# Altium schematic symbol library CM3Board_V1I2.SCHLIB: 170 symbols (part 1 of 5)
Pins are listed as number, name and electrical type; pins without a type are passive.

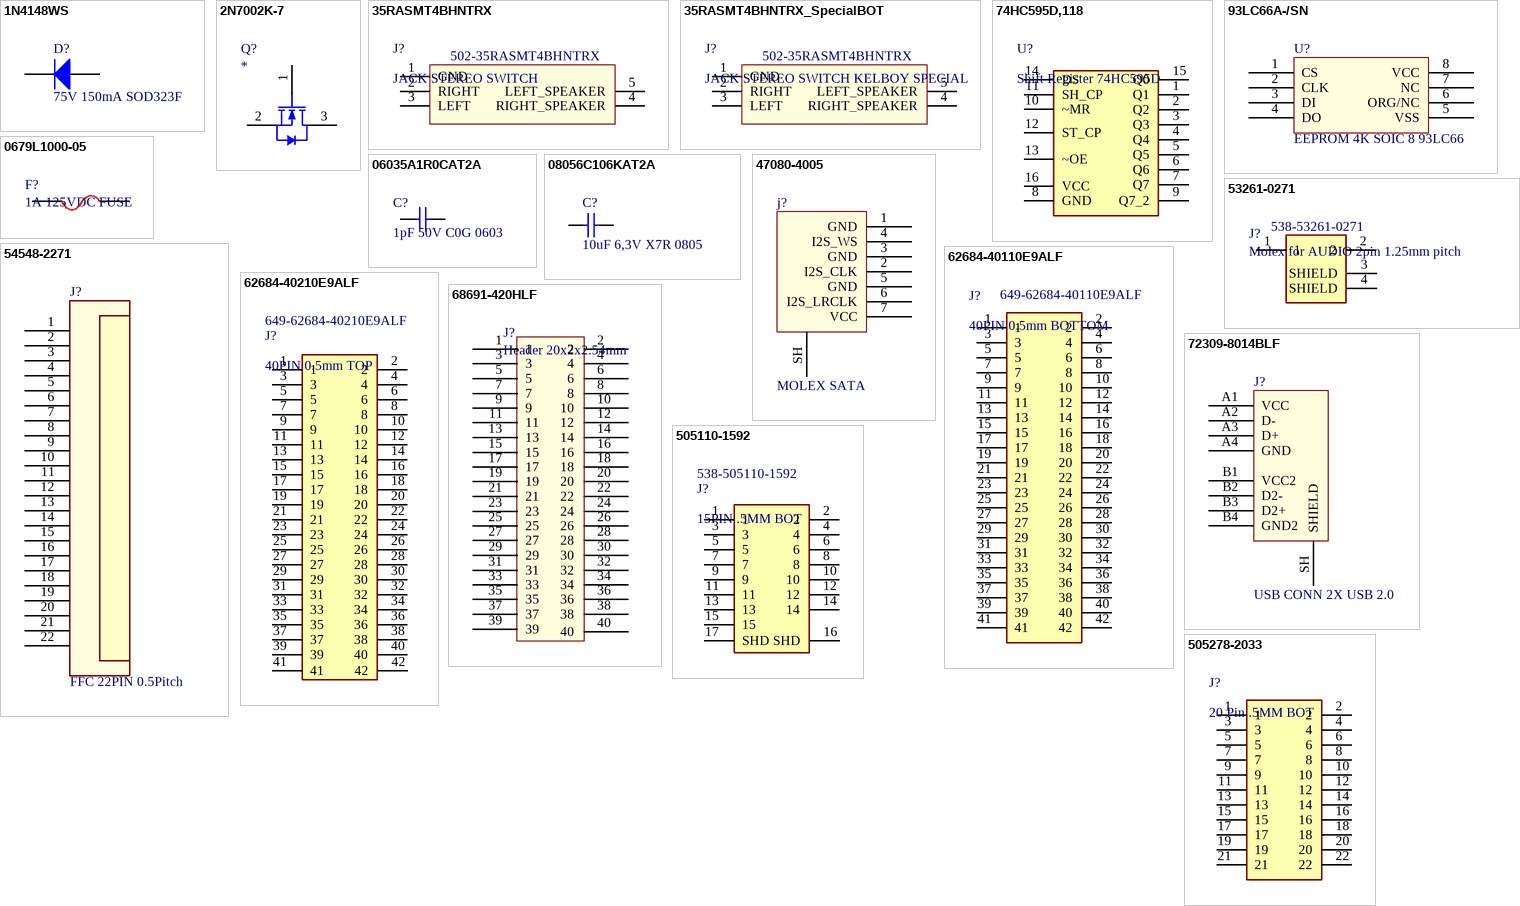
[diagram p0: symbols 1N4148WS to 505278-2033]

## 1N4148WS
designator D?, comment 75V 150mA SOD323F
DIODE GEN PURP 75V 150MA SOD323F; Manufacturer: ON Semiconductor / Fairchild; Manufacturer Part Number: 1N4148WS; Forward Voltage: 1V; Element Configuration: Single; Reverse Recovery Time: 4ns; Peak Reverse Current: 5uA; Power Dissipation: 200mW; Max Forward Surge Current (Ifsm): 2A; Supplier 1: Mouser; Stock 1: 522765; Pricing 1: 1=0.17, 10=0.152, 50=0.152, 100=0.054, 1000=0.036, 10000=0.024 (USD); Mount: Surface Mount; Number of Pins: 2; Weight: 0.0276g; Contact Plating: Matte,Tin; Min Operating Temperature: -55°C; Max Operating Temperature: 150°C; Packaging: Tape and Reel; Forward Current: 150mA; Package Quantity: 1; Recovery Time: 4ns; Average Rectified Current: 150mA; Max Repetitive Reverse Voltage (Vrrm): 75V; Max Reverse Voltage (DC): 75V; Reverse Voltage: 75V; Length: 1.8mm; Height: 1mm; Width: 1.35mm; Radiation Hardening: No; Lead Free: Lead Free; REACH SVHC: No SVHC; ComponentLink1URL: https://www.fairchildsemi.com/datasheets/1N/1N914BWS.pdf; ComponentLink1Description: https://www.fairchildsemi.com/datasheets/1N/1N914BWS.pdf; ComponentLink2URL: https://www.verical.com/server-webapp/html/getDatasheet?partID=127819; ComponentLink2Description: https://www.verical.com/server-webapp/html/getDatasheet?partID=127819; ComponentLink3URL: http://uk.rs-online.com/webdocs/10e1/0900766b810e1cd3.pdf; ComponentLink3Description: http://uk.rs-online.com/webdocs/10e1/0900766b810e1cd3.pdf; ComponentLink4URL: https://www.fairchildsemi.com/datasheets/1N/1N4148WS.pdf; ComponentLink4Description: https://www.fairchildsemi.com/datasheets/1N/1N4148WS.pdf; Supplier Part Number 1: 512-1N4148WS
footprint SOD-323F
pins: 1 K, 2 A

## 2N7002K-7
designator Q?
MOSFET Small-signal MOSFET; Manufacturer: Toshiba; Manufacturer Part Number: 2N7002K-7; Drain to Source Voltage (Vdss): 60V; Continuous Drain Current (ID): 380mA; Rds On Max: 2R; Input Capacitance: 17pF; Max Power Dissipation: 540mW; Mount: Surface Mount; Case/Package: SOT-23-3; Packaging: Tape and Reel; Supplier 1: Mouser; Supplier Part Number 1: 621-2N7002K-7
footprint SOT-23-3 (SOT23, 3-Leads, Body 2.92x1.3mm, Pitch 0.95mm)
pins: 1 G, 2 S, 3 D

## 35RASMT4BHNTRX
designator J?, comment JACK STEREO SWITCH  Supplier Part Number 1: 502-35RASMT4BHNTRX
CONN JACK STEREO 3.5MM SMD R/A; Manufacturer: Switchcraft; Manufacturer Part Number: 35RASMT4BHNTRX; Gender: Female; Shielding: Unshielded; Number of Ports: 1; Voltage Rating: 250V; Current Rating: 3A; Supplier 1: Mouser; RoHS: Yes; Stock 1: 8749; Pricing 1: 1 = 0,97000, 10 = 0,88000, 50 = 0,80300, 100 = 0,76400, 1000 = 0,71200, 10000 = 0,71200 (USD); Mount: Surface Mount; Contact Plating: Silver; Color: Black; Contact Material: Copper Alloy; Number of Terminals: 5; Housing Color: Black; Housing Material: Thermoplastic; Min Operating Temperature: -25°C; Max Operating Temperature: 85°C; Packaging: Tape and Reel; Termination: Solder; Package Quantity: 1100; Max Current Rating: 3A; Orientation: Right Angle; Length: 19mm; Depth: 6mm; Lead Free: Lead Free; ComponentLink1URL: https://datasheet.ciiva.com/390/35rasmt4bhntrx-cd-390487.pdf?src-supplier=Digi-Key; ComponentLink1Description: https://datasheet.ciiva.com/390/35rasmt4bhntrx-cd-390487.pdf?src-supplier=Digi-Key; ComponentLink2URL: https://datasheet.ciiva.com/11720/0900766b80e28029-11720622.pdf?src-supplier=RSComponents; ComponentLink2Description: https://datasheet.ciiva.com/11720/0900766b80e28029-11720622.pdf?src-supplier=RSComponents; ComponentLink3URL: https://datasheet.ciiva.com/390/35rasmt4bhntrx-cd-390488.pdf?src-supplier=Digi-Key; ComponentLink3Description: https://datasheet.ciiva.com/390/35rasmt4bhntrx-cd-390488.pdf?src-supplier=Digi-Key; ComponentLink4URL: https://datasheet.ciiva.com/390/35rasmt4bhntrx-cd-390489.pdf?src-supplier=Digi-Key; ComponentLink4Description: https://datasheet.ciiva.com/390/35rasmt4bhntrx-cd-390489.pdf?src-supplier=Digi-Key
footprint 35RASMT4BHNTRX
pins: 1 GND, 2 RIGHT, 3 LEFT, 4 RIGHT_SPEAKER, 5 LEFT_SPEAKER

## 35RASMT4BHNTRX_SpecialBOT
designator J?, comment JACK STEREO SWITCH KELBOY SPECIAL  Supplier Part Number 1: 502-35RASMT4BHNTRX
CONN JACK STEREO 3.5MM SMD R/A; Manufacturer: Switchcraft; Manufacturer Part Number: 35RASMT4BHNTRX; Gender: Female; Shielding: Unshielded; Number of Ports: 1; Voltage Rating: 250V; Current Rating: 3A; Supplier 1: Mouser; RoHS: Yes; Stock 1: 8749; Pricing 1: 1 = 0,97000, 10 = 0,88000, 50 = 0,80300, 100 = 0,76400, 1000 = 0,71200, 10000 = 0,71200 (USD); Mount: Surface Mount; Contact Plating: Silver; Color: Black; Contact Material: Copper Alloy; Number of Terminals: 5; Housing Color: Black; Housing Material: Thermoplastic; Min Operating Temperature: -25°C; Max Operating Temperature: 85°C; Packaging: Tape and Reel; Termination: Solder; Package Quantity: 1100; Max Current Rating: 3A; Orientation: Right Angle; Length: 19mm; Depth: 6mm; Lead Free: Lead Free; ComponentLink1URL: https://datasheet.ciiva.com/390/35rasmt4bhntrx-cd-390487.pdf?src-supplier=Digi-Key; ComponentLink1Description: https://datasheet.ciiva.com/390/35rasmt4bhntrx-cd-390487.pdf?src-supplier=Digi-Key; ComponentLink2URL: https://datasheet.ciiva.com/11720/0900766b80e28029-11720622.pdf?src-supplier=RSComponents; ComponentLink2Description: https://datasheet.ciiva.com/11720/0900766b80e28029-11720622.pdf?src-supplier=RSComponents; ComponentLink3URL: https://datasheet.ciiva.com/390/35rasmt4bhntrx-cd-390488.pdf?src-supplier=Digi-Key; ComponentLink3Description: https://datasheet.ciiva.com/390/35rasmt4bhntrx-cd-390488.pdf?src-supplier=Digi-Key; ComponentLink4URL: https://datasheet.ciiva.com/390/35rasmt4bhntrx-cd-390489.pdf?src-supplier=Digi-Key; ComponentLink4Description: https://datasheet.ciiva.com/390/35rasmt4bhntrx-cd-390489.pdf?src-supplier=Digi-Key
footprint 35RASMT4BHNTRX_SpecialBOT
pins: 1 GND, 2 RIGHT, 3 LEFT, 4 RIGHT_SPEAKER, 5 LEFT_SPEAKER

## 74HC595D,118
designator U?, comment Shift Register 74HC595D
Registros de desplazamientos de contadores 8-BIT SHIFT REG W/OUTPUT LATCH; Manufacturer: NXP Semiconductors; Manufacturer Part Number: 74HC595D,118; Direction: Unidirectional; Operating Supply Voltage: 5V; Propagation Delay: 16ns; Min Supply Voltage: 2V; Max Supply Voltage: 6V; Frequency: 100MHz; Number of Elements: 1; Number of Bits per Element: 8; Turn-On Delay Time: 265ns; Number of Output Lines: 9; Quiescent Current: 160uA; Supplier 1: Mouser; Stock 1: 61545; Pricing 1: 1=0.46, 10=0.33, 50=0.33, 100=0.152, 1000=0.117, 10000=0.091 (USD); Mount: Surface Mount; Case/Package: SO; Number of Pins: 16; Weight: 0.02lb; Contact Plating: Gold; Min Operating Temperature: -40°C; Max Operating Temperature: 125°C; Logic Function: Shift Register; Packaging: Tape and Reel; Package Quantity: 2500; Number of Input Lines: 1; Number of Bits: 8; Number of Inputs: 1; Number of Circuits: 1; Voltage: 5V; Length: 1inch; Height: 0.25inch; Width: 0.5inch; Radiation Hardening: No; REACH SVHC: No SVHC; Lead Free: Lead Free; ComponentLink1URL: http://www.farnell.com/datasheets/2038613.pdf?src-supplier=Element14; ComponentLink1Description: http://www.farnell.com/datasheets/2038613.pdf?src-supplier=Element14; ComponentLink2URL: http://www.nxp.com/documents/data_sheet/74HC_HCT595.pdf?src-supplier=Digi-Key; ComponentLink2Description: http://www.nxp.com/documents/data_sheet/74HC_HCT595.pdf?src-supplier=Digi-Key; ComponentLink3URL: http://www.farnell.com/datasheets/2038613.pdf?src-supplier=Farnell; ComponentLink3Description: http://www.farnell.com/datasheets/2038613.pdf?src-supplier=Farnell; ComponentLink4URL: http://www.nxp.com/documents/data_sheet/74HC_HCT595.pdf?ecmp=mouser&src-supplier=Mouser; ComponentLink4Description: http://www.nxp.com/documents/data_sheet/74HC_HCT595.pdf?ecmp=mouser&src-supplier=Mouser; ComponentLink5URL: http://www.farnell.com/datasheets/1561729.pdf?src-supplier=Element14; ComponentLink5Description: http://www.farnell.com/datasheets/1561729.pdf?src-supplier=Element14; Supplier Part Number 1: 771-74HC595D-T
footprint SOIC127P600X175-16N
pins: 1 Q1, 2 Q2, 3 Q3, 4 Q4, 5 Q5, 6 Q6, 7 Q7, 8 GND, 9 Q7_2, 10 ~MR, 11 SH_CP, 12 ST_CP, 13 ~OE, 14 DS, 15 Q0, 16 VCC

## 93LC66A-/SN
designator U?, comment EEPROM 4K SOIC 8 93LC66
IC, EEPROM SERIAL 4K, 93LC66, SOIC8; Manufacturer: Microchip; Manufacturer Part Number: 93LC66A-/SN; Density: 4Kb; Max Frequency: 2MHz; Max Supply Voltage: 6V; Min Supply Voltage: 2.5V; Nominal Supply Current: 1.5mA; Access Time: 400ns; Number of Words: 512; Supplier 1: Mouser; Stock 1: 3423; Pricing 1: 1=0.26, 10=0.26, 50=0.257, 100=0.247, 1000=0.247, 10000=0.247 (USD); Mount: Surface Mount; Case/Package: SOIC; Number of Pins: 8; Contact Plating: Matte,Tin; Min Operating Temperature: 0°C; Max Operating Temperature: 70°C; Interface: Serial; Frequency: 2MHz; Package Quantity: 100; Packaging: Rail/Tube; Memory Size: 4Kb; Memory Type: EEPROM; Length: 4.9mm; Height: 1.5mm; Width: 3.9mm; Radiation Hardening: No; REACH SVHC: No SVHC; Lead Free: Lead Free; ComponentLink1URL: https://www.verical.com/server-webapp/html/getDatasheet?partID=77478; ComponentLink1Description: https://www.verical.com/server-webapp/html/getDatasheet?partID=77478; ComponentLink2URL: http://ww1.microchip.com/downloads/en/DeviceDoc/21795C.pdf; ComponentLink2Description: http://ww1.microchip.com/downloads/en/DeviceDoc/21795C.pdf; ComponentLink3URL: http://www.farnell.com/datasheets/1688094.pdf; ComponentLink3Description: http://www.farnell.com/datasheets/1688094.pdf; ComponentLink4URL: http://www.microchip.com/mymicrochip/filehandler.aspx?ddocname=en011819; ComponentLink4Description: http://www.microchip.com/mymicrochip/filehandler.aspx?ddocname=en011819; ComponentLink5URL: http://ww1.microchip.com/downloads/jp/DeviceDoc/jp011819.pdf; ComponentLink5Description: http://ww1.microchip.com/downloads/jp/DeviceDoc/jp011819.pdf; ComponentLink6URL: http://www.alliedelec.com/images/products/datasheets/bm/MICROCHIP/70045314.pdf; ComponentLink6Description: http://www.alliedelec.com/images/products/datasheets/bm/MICROCHIP/70045314.pdf; Supplier Part Number 1: 579-93LC66ASN
footprint SOIC-8 (SOIC, 8-Leads, Body 4.9x3.9mm, Pitch 1.27mm, IPC Medium Density)
pins: 1 CS, 2 CLK, 3 DI, 4 DO, 5 VSS, 6 ORG/NC, 7 NC, 8 VCC

## 0679L1000-05
designator F?, comment 1A 125VDC FUSE
FUSE BRD MNT 1A 125VAC/VDC; Manufacturer: Bel; Manufacturer Part Number: 0679L1000-05; Voltage Rating (AC): 125V; DC Cold Resistance: 90mR; Fuse Type: Board Mount (Cartridge Style Excluded); Approvals: cURus; Supplier 1: Mouser; RoHS: Yes; Stock 1: 2811; Pricing 1: 1 = 0,33000, 10 = 0,30100, 50 = 0,30100, 100 = 0,27100, 1000 = 0,20000, 10000 = 0,13400 (USD); Mount: Surface Mount; Case/Package: 2410; Case Code (Metric): 6125; Case Code (Imperial): 2410; Min Operating Temperature: -55°C; Max Operating Temperature: 125°C; Packaging: Tape and Reel; Current Rating: 1A; Voltage Rating (DC): 125V; Length: 0.24inch; Height: 0.11inch; Width: 0.1inch; ComponentLink1URL: http://www.belfuse.com/resources/CircuitProtection/datasheets/0679L%20Sep2016.pdf?src-supplier=Digi-Key; ComponentLink1Description: http://www.belfuse.com/resources/CircuitProtection/datasheets/0679L%20Sep2016.pdf?src-supplier=Digi-Key; Supplier Part Number 1: 530-0679L1000-05
footprint Fuse/Resistor/capacitor 2410/6125
pins: 1, 2

## 06035A1R0CAT2A
designator C?, comment 1pF 50V C0G 0603
CAP CER 1PF 50V C0G/NP0 0603; Manufacturer: Kyocera AVX; Manufacturer Part Number: 06035A1R0CAT2A; Temperature Coefficient: 0ppm/°C; Supplier 1: Mouser; RoHS: Yes; Stock 1: 16359; Pricing 1: 1 = 0,10000, 10 = 0,08300, 50 = 0,08300, 100 = 0,03700, 1000 = 0,02100, 10000 = 0,01300 (USD); Mount: Surface Mount; Case/Package: 0603; Case Code (Metric): 1608; Case Code (Imperial): 0603; Contact Plating: Tin; Min Operating Temperature: -55°C; Max Operating Temperature: 125°C; Capacitance: 1pF; Dielectric: C0G; Packaging: Tape and Reel; Voltage Rating (DC): 50V; Voltage Rating: 50V; Package Quantity: 4000; Termination: SMD/SMT; Voltage: 50V; Length: 1.6mm; Height: 0.86mm; Depth: 0.81mm; Width: 0.032inch; Thickness: 0.035inch; Radiation Hardening: No; REACH SVHC: No SVHC; Lead Free: Lead Free; ComponentLink1URL: https://datasheet.ciiva.com/150/ccog-150338.pdf?src-supplier=Digi-Key; ComponentLink1Description: https://datasheet.ciiva.com/150/ccog-150338.pdf?src-supplier=Digi-Key; ComponentLink2URL: https://datasheet.ciiva.com/150/ccog-150339.pdf?src-supplier=Digi-Key; ComponentLink2Description: https://datasheet.ciiva.com/150/ccog-150339.pdf?src-supplier=Digi-Key; ComponentLink3URL: https://datasheet.ciiva.com/150/ccog-150340.pdf?src-supplier=Digi-Key; ComponentLink3Description: https://datasheet.ciiva.com/150/ccog-150340.pdf?src-supplier=Digi-Key; ComponentLink4URL: https://datasheet.ciiva.com/17493/ccog-17493973.pdf?src-supplier=Avnet+Europe; ComponentLink4Description: https://datasheet.ciiva.com/17493/ccog-17493973.pdf?src-supplier=Avnet+Europe; ComponentLink5URL: https://datasheet.ciiva.com/16215/ccog-16215688.pdf?src-supplier=Future+Electronics; ComponentLink5Description: https://datasheet.ciiva.com/16215/ccog-16215688.pdf?src-supplier=Future+Electronics; ComponentLink6URL: https://datasheet.ciiva.com/2987/ccog-2987787.pdf?src-supplier=Avnet; ComponentLink6Description: https://datasheet.ciiva.com/2987/ccog-2987787.pdf?src-supplier=Avnet; ComponentLink7URL: https://datasheet.ciiva.com/22681/1796416-22681067.pdf?src-supplier=Element14; ComponentLink7Description: https://datasheet.ciiva.com/22681/1796416-22681067.pdf?src-supplier=Element14; ComponentLink8URL: https://datasheet.ciiva.com/11537/ccog-11537772.pdf?src-supplier=Avnet; ComponentLink8Description: https://datasheet.ciiva.com/11537/ccog-11537772.pdf?src-supplier=Avnet; Supplier Part Number 1: 581-06035A1R0C
footprint C 0603/1608
pins: 1, 2

## 08056C106KAT2A
designator C?, comment 10uF 6,3V X7R 0805
CAP CER 10UF 6.3V X7R 0805; Manufacturer: AVX Corporation; Manufacturer Part Number: 08056C106KAT2A; Tolerance: ±10%; Notification: Current market demand for these product types have resulted in fluctuating and extending lead times. Lead times may differ.; Supplier 1: Digi-Key; RoHS: RoHS Compliant; Category: Capacitors; Stock 1: 155654; Pricing 1: 1=0.33, 10=0.228, 100=0.1372, 500=0.1029, 1000=0.0869 (EUR); Packaging: Cut Tape (CT); Part Status: Active; Voltage - Rated: 6.3V; Temperature Coefficient: X7R; Operating Temperature: -55°C ~ 125°C; Features: -; Ratings: -; Applications: General Purpose; Mounting Type: Surface Mount, MLCC; Package / Case: 0805 (2012 Metric); Size / Dimension: 0.079" L x 0.049" W (2.01mm x 1.25mm); Height - Seated (Max): -; Thickness (Max): 0.060" (1.52mm); Lead Spacing: -; Lead Style: -; ComponentLink1URL: http://datasheets.avx.com/X7RDielectric.pdf; ComponentLink1Description: http://datasheets.avx.com/X7RDielectric.pdf; Supplier Part Number 1: 478-5322-1-ND
footprint C 0805/2012
pins: 1, 2

## 47080-4005
designator j?, comment MOLEX SATA
MOLEX         47080-4005             I/O Connector, 7 Contacts, Plug, SATA, Surface Mount, 47080 Series, PCB Mount; Number of Positions: 7; Gender: Male; Number of Ports: 1; Current Rating: 1.5A; Voltage Rating: 15V; Pitch: 1.27mm; Glow Wire Compliant: Non-compliant; Supplier 1: Mouser; Manufacturer: Molex; Manufacturer Part Number: 47080-4005; Stock 1: 6575; Pricing 1: 1=0.59, 10=0.539, 50=0.518, 100=0.508, 1000=0.497, 10000=0.42 (USD); Mount: Surface Mount; Contact Material: Copper Alloy; Contact Plating: Gold; Number of Terminals: 7; Housing Material: Plastic; Min Operating Temperature: -35°C; Max Operating Temperature: 85°C; Packaging: Tape and Reel; Termination: Solder; Orientation: Right Angle; Package Quantity: 1520; Connector Type: SATA; Number of Contacts: 7; Voltage Rating (DC): 15V; Number of Circuits: 7; Length: 17.54mm; Depth: 11.56mm; Radiation Hardening: No; REACH SVHC: Unknown; Lead Free: Lead Free; ComponentLink1URL: http://www.mouser.com/ds/2/276/0470804005_PCB_HEADERS-146260.pdf?src-supplier=Mouser; ComponentLink1Description: http://www.mouser.com/ds/2/276/0470804005_PCB_HEADERS-146260.pdf?src-supplier=Mouser; ComponentLink2URL: http://www.farnell.com/datasheets/1630652.pdf?src-supplier=Element14; ComponentLink2Description: http://www.farnell.com/datasheets/1630652.pdf?src-supplier=Element14; ComponentLink3URL: http://www.molex.com/pdm_docs/sd/470804001_sd.pdf?src-supplier=Element14; ComponentLink3Description: http://www.molex.com/pdm_docs/sd/470804001_sd.pdf?src-supplier=Element14; ComponentLink4URL: http://www.farnell.com/datasheets/2199206.pdf?src-supplier=Element14; ComponentLink4Description: http://www.farnell.com/datasheets/2199206.pdf?src-supplier=Element14; ComponentLink5URL: http://www.onlinecomponents.com/productFiles/mf-MOL/0470804005_pcb_headers.pdf?src-supplier=Onlinecomponents.com; ComponentLink5Description: http://www.onlinecomponents.com/productFiles/mf-MOL/0470804005_pcb_headers.pdf?src-supplier=Onlinecomponents.com; ComponentLink6URL: http://www.jameco.com/Jameco/Products/ProdDS/1971626.pdf?src-supplier=Jameco; ComponentLink6Description: http://www.jameco.com/Jameco/Products/ProdDS/1971626.pdf?src-supplier=Jameco; Supplier Part Number 1: 538-47080-4005
footprint 47080-4005 SATA
pins: 1 GND, 2 I2S_CLK, 3 GND, 4 I2S_WS, 5 GND, 6 I2S_LRCLK, 7 VCC, SH

## 53261-0271
designator J?, comment Molex for AUDIO 2pin 1.25mm pitch  Supplier Part Number 1: 538-53261-0271
MOLEX - 53261-0271 - CONNECTOR, HEADER, 2POS, 1ROW, 1.25MM; Contact Resistance: 20mR; Number of Positions: 2; Gender: Male; Voltage Rating: 125V; Current Rating: 1A; Insulation Resistance: 100MR; Glow Wire Compliant: Non-compliant; Supplier 1: Mouser; Manufacturer 1: Molex; Manufacturer Part Number 1: 53261-0271; Stock 1: 33346; Pricing 1: 1=0,46000, 10=0,35000, 100=0,30600, 500=0,29200, 1000=0,24000, 2000=0,24000 (USD); RoHS: Yes; Mount: Surface Mount; Contact Plating: Tin; Contact Material: Bronze,Tin; Color: Beige; Housing Material: Thermoplastic; Min Operating Temperature: -40°C; Max Operating Temperature: 85°C; Termination: SMD/SMT; Number of Rows: 1; Packaging: Tape and Reel; Number of Contacts: 2; Orientation: Right Angle; Voltage Rating (AC): 125V; Package Quantity: 1000; Working Voltage: 125V; Number of Circuits: 2; Voltage Rating (DC): 125V; Pitch: 1.25mm; Lead Pitch: 1.25mm; Radiation Hardening: No; Flammability Rating: UL94 V-0; REACH SVHC: Unknown; Lead Free: Lead Free; ComponentLink1URL: https://datasheet.ciiva.com/11747/0900766b8078fc90-11747475.pdf?src-supplier=RSComponents; ComponentLink1Description: https://datasheet.ciiva.com/11747/0900766b8078fc90-11747475.pdf?src-supplier=RSComponents; ComponentLink2URL: https://datasheet.ciiva.com/7167/1626147-7167496.pdf?src-supplier=Newark; ComponentLink2Description: https://datasheet.ciiva.com/7167/1626147-7167496.pdf?src-supplier=Newark; ComponentLink3URL: https://datasheet.ciiva.com/30193/198270532610271-pcb-headers-30193321.pdf?src-supplier=Onlinecomponents.com; ComponentLink3Description: https://datasheet.ciiva.com/30193/198270532610271-pcb-headers-30193321.pdf?src-supplier=Onlinecomponents.com; ComponentLink4URL: https://datasheet.ciiva.com/5151/0532610271-pcb-headers-171053-5151611.pdf?src-supplier=Mouser; ComponentLink4Description: https://datasheet.ciiva.com/5151/0532610271-pcb-headers-171053-5151611.pdf?src-supplier=Mouser; ComponentLink5URL: https://datasheet.ciiva.com/34303/1932547-34303342.pdf?src-supplier=Jameco; ComponentLink5Description: https://datasheet.ciiva.com/34303/1932547-34303342.pdf?src-supplier=Jameco; ComponentLink6URL: https://datasheet.ciiva.com/16658/0532610271-pcb-headers-16658423.pdf?src-supplier=Avnet+Europe; ComponentLink6Description: https://datasheet.ciiva.com/16658/0532610271-pcb-headers-16658423.pdf?src-supplier=Avnet+Europe; ComponentLink7URL: https://datasheet.ciiva.com/17035/70091115-17035863.pdf?src-supplier=Allied+Electronics; ComponentLink7Description: https://datasheet.ciiva.com/17035/70091115-17035863.pdf?src-supplier=Allied+Electronics; ComponentLink8URL: https://datasheet.ciiva.com/7920/1887027-7920826.pdf?src-supplier=Element14; ComponentLink8Description: https://datasheet.ciiva.com/7920/1887027-7920826.pdf?src-supplier=Element14; ComponentLink9URL: https://datasheet.ciiva.com/9468/0532610271-pcb-headers-9468506.pdf?src-supplier=Avnet; ComponentLink9Description: https://datasheet.ciiva.com/9468/0532610271-pcb-headers-9468506.pdf?src-supplier=Avnet; ComponentLink10URL: https://datasheet.ciiva.com/22683/1626147-22683562.pdf?src-supplier=Element14; ComponentLink10Description: https://datasheet.ciiva.com/22683/1626147-22683562.pdf?src-supplier=Element14; ComponentLink11URL: https://datasheet.ciiva.com/46393/1808526-46393547.pdf?src-supplier=Element14; ComponentLink11Description: https://datasheet.ciiva.com/46393/1808526-46393547.pdf?src-supplier=Element14
footprint 532610271
pins: 1, 2, 3 SHIELD, 4 SHIELD

## 54548-2271
designator J?, comment FFC 22PIN 0.5Pitch
FFC & FPC Connectors 0.5 FPC ZIF Hsg Assy ssy 22Ckt EmbsTp Pkg; Manufacturer: Molex; Manufacturer Part Number: 54548-2271; Current Rating: 500mA; Voltage Rating: 50V; Number of Positions: 22; Contact Location: Bottom; Gender: Receptacle; Stackable: No; Pitch: 0.5mm; Supplier 1: Mouser; Stock 1: 16642; Pricing 1: 1=2.36, 10=2.08, 50=2.08, 100=1.89, 1000=1.37, 10000=1.37 (USD); Contact Material: Bronze,Gold; Contact Plating: Gold,Tin; Housing Material: Polymer; Material: Bronze; Package Quantity: 3000; Packaging: Tape and Reel; Termination: SMD/SMT; Number of Rows: 1; Orientation: Right Angle; Number of Contacts: 22; Number of Circuits: 22; REACH SVHC: Unknown; ELV: Compliant; ComponentLink1URL: http://www.mouser.com/ds/2/276/0545482271_FFC_FPC_CONNECTORS-144074.pdf?src-supplier=Mouser; ComponentLink1Description: http://www.mouser.com/ds/2/276/0545482271_FFC_FPC_CONNECTORS-144074.pdf?src-supplier=Mouser; Supplier Part Number 1: 538-54548-2271
footprint FFC 22pin 0.5pitch
pins: 1 P1, 2 P2, 3 P3, 4 P4, 5 P5, 6 P6, 7 P7, 8 P8, 9 P9, 10 P10, 11 P11, 12 P12, 13 P13, 14 P14, 15 P15, 16 P16, 17 P17, 18 P18, 19 P19, 20 P20, 21 P21, 22 P22

## 62684-40110E9ALF
designator J?, comment 40PIN 0.5mm BOTTOM  Supplier Part Number 1: 649-62684-40110E9ALF
Conn FFC/FPC Connector SKT 40 POS 0.5mm Solder RA SMD Embossed T/R; Manufacturer: Amphenol FCI; Manufacturer Part Number: 62684-40110E9ALF; Actuator Material: Glass; Number of Contacts: 40; Contact Resistance: 30mR; Voltage Rating: 50V; Current Rating: 500mA; Gender: Receptacle; Insulation Resistance: 100MR; Supplier 1: Mouser; RoHS: Yes; Stock 1: 1942; Pricing 1: 1 = 0,89000, 10 = 0,70300, 50 = 0,70300, 100 = 0,67200, 1000 = 0,48900, 10000 = 0,40600 (USD); Mount: Surface Mount; Contact Material: Bronze; Contact Plating: Gold; Housing Color: Beige; Housing Material: Thermoplastic; Min Operating Temperature: -55°C; Max Operating Temperature: 85°C; Number of Rows: 1; Termination: Solder; Orientation: Right Angle; Packaging: Tape and Reel; Package Quantity: 500; Number of Positions: 40; Contact Location: Bottom; Max Voltage Rating (AC): 50V; Max Voltage Rating (DC): 50V; Length: 25.5mm; Pitch: 0.5mm; Depth: 5mm; Radiation Hardening: No; REACH SVHC: No SVHC; Lead Free: Lead Free; Flammability Rating: UL94 V-0; ComponentLink1URL: https://datasheet.ciiva.com/25629/0900766b8118e51e-25629595.pdf?src-supplier=RSComponents; ComponentLink1Description: https://datasheet.ciiva.com/25629/0900766b8118e51e-25629595.pdf?src-supplier=RSComponents; ComponentLink2URL: https://datasheet.ciiva.com/18491/62684-18491962.pdf?src-supplier=Digi-Key; ComponentLink2Description: https://datasheet.ciiva.com/18491/62684-18491962.pdf?src-supplier=Digi-Key; ComponentLink3URL: https://datasheet.ciiva.com/8037/1844754-8037941.pdf?src-supplier=Element14; ComponentLink3Description: https://datasheet.ciiva.com/8037/1844754-8037941.pdf?src-supplier=Element14
footprint 6268440110E9ALF
pins: 1, 2, 3, 4, 5, 6, 7, 8, 9, 10, 11, 12, 13, 14, 15, 16, 17, 18, 19, 20, 21, 22, 23, 24, 25, 26, 27, 28, 29, 30, 31, 32, 33, 34, 35, 36, 37, 38, 39, 40, 41, 42

## 62684-40210E9ALF
designator J?, comment 40PIN 0.5mm TOP  Supplier Part Number 1: 649-62684-40210E9ALF
AMPHENOL ICC (FCI) - 62684-40210E9ALF - FPC/FFC, 0.5MM, R/A, TOP, 40WAY; Manufacturer: Amphenol FCI; Actuator Material: Glass; Number of Contacts: 40; Voltage Rating: 50V; Current Rating: 500mA; Gender: Receptacle; Contact Resistance: 30mR; Insulation Resistance: 100MR; Supplier 1: Mouser; Manufacturer Part Number: 62684-40210E9ALF; RoHS: Yes; Stock 1: 1370; Pricing 1: 1 = 1,05000, 10 = 0,83700, 50 = 0,83700, 100 = 0,80100, 1000 = 0,49700, 10000 = 0,43000 (USD); Mount: Surface Mount; Contact Plating: Gold; Contact Material: Bronze; Housing Color: Beige; Housing Material: Thermoplastic; Min Operating Temperature: -55°C; Max Operating Temperature: 85°C; Number of Rows: 1; Termination: Solder; Orientation: Right Angle; Packaging: Tape and Reel; Package Quantity: 500; Contact Location: Top; Number of Positions: 40; Max Voltage Rating (AC): 50V; Max Voltage Rating (DC): 50V; Length: 25.5mm; Pitch: 0.5mm; Depth: 5mm; Radiation Hardening: No; REACH SVHC: No SVHC; Flammability Rating: UL94 V-0; ComponentLink1URL: https://datasheet.ciiva.com/25629/0900766b8118e51e-25629590.pdf?src-supplier=RSComponents; ComponentLink1Description: https://datasheet.ciiva.com/25629/0900766b8118e51e-25629590.pdf?src-supplier=RSComponents; ComponentLink2URL: https://datasheet.ciiva.com/13704/62684-13704693.pdf?src-supplier=Mouser; ComponentLink2Description: https://datasheet.ciiva.com/13704/62684-13704693.pdf?src-supplier=Mouser; ComponentLink3URL: https://datasheet.ciiva.com/8037/62684-8037944.pdf?src-supplier=Element14; ComponentLink3Description: https://datasheet.ciiva.com/8037/62684-8037944.pdf?src-supplier=Element14; ComponentLink4URL: https://datasheet.ciiva.com/18491/62684-18491948.pdf?src-supplier=Digi-Key; ComponentLink4Description: https://datasheet.ciiva.com/18491/62684-18491948.pdf?src-supplier=Digi-Key; ComponentLink5URL: https://datasheet.ciiva.com/10367/10101643-10367647.pdf?src-supplier=Avnet; ComponentLink5Description: https://datasheet.ciiva.com/10367/10101643-10367647.pdf?src-supplier=Avnet
footprint 62684-40
pins: 1, 2, 3, 4, 5, 6, 7, 8, 9, 10, 11, 12, 13, 14, 15, 16, 17, 18, 19, 20, 21, 22, 23, 24, 25, 26, 27, 28, 29, 30, 31, 32, 33, 34, 35, 36, 37, 38, 39, 40, 41, 42

## 68691-420HLF
designator J?, comment Header 20x2x2.54mm
Conn Unshrouded Header HDR 20 POS 2.54mm Solder ST Thru-Hole Poly Bag; Manufacturer: Amphenol FCI; Manufacturer Part Number: 68691-420HLF; Current Rating: 3A; Voltage Rating: 1.5kV; Number of Positions: 20; Insulation Resistance: 5GR; Gender: Male; Connector Type: Male Pin; Row Spacing: 0.1inch; Contact Post Length: 3.05mm; Supplier 1: Mouser; Stock 1: 1459; Pricing 1: 10000=0.188 (USD); Mount: Through Hole; Color: Black; Contact Plating: Tin; Contact Material: Bronze; Housing Color: Black; Housing Material: Thermoplastic; Min Operating Temperature: -65°C; Max Operating Temperature: 125°C; Package Quantity: 100; Number of Rows: 2; Packaging: Bulk; Contact Gender: Male; Termination: Solder; Max Voltage Rating (AC): 1.5kV; Number of Contacts: 20; Orientation: Straight; Length: 25.4mm; Pitch: 2.54mm; Contact Mating Length: 0.318inch; Depth: 4.83mm; Lead Free: Lead Free; ComponentLink1URL: http://portal.fciconnect.com/Comergent//fci/drawing/67996.pdf?src-supplier=Digi-Key; ComponentLink1Description: http://portal.fciconnect.com/Comergent//fci/drawing/67996.pdf?src-supplier=Digi-Key; ComponentLink2URL: http://portal.fciconnect.com/Comergent/fci/drawing/67996.pdf?src-supplier=Avnet; ComponentLink2Description: http://portal.fciconnect.com/Comergent/fci/drawing/67996.pdf?src-supplier=Avnet; Supplier Part Number 1: 649-68691-420HLF
footprint Header 20x2 (2.54mm)
pins: 1, 2, 3, 4, 5, 6, 7, 8, 9, 10, 11, 12, 13, 14, 15, 16, 17, 18, 19, 20, 21, 22, 23, 24, 25, 26, 27, 28, 29, 30, 31, 32, 33, 34, 35, 36, 37, 38, 39, 40

## 72309-8014BLF
designator J?, comment USB CONN 2X USB 2.0
AMPHENOL FCI         72309-8014BLF             USB STACKED, 2.0 TYPE A, 2PORT, R/A; Plating: Nickel; Gender: Receptacle; Connector Type: Receptacle,USB; Number of Contacts: 8; Number of Ports: 2; USB Standard: USB 2.0; Supplier 1: Mouser; Manufacturer: Amphenol FCI; Manufacturer Part Number: 72309-8014BLF; Stock 1: 2605; Pricing 1: 1=1.37, 10=1.12, 50=1.12, 100=1.07, 1000=0.759, 10000=0.759 (USD); Mount: Horizontal,Through Hole; Contact Material: Copper,Copper Alloy; Contact Plating: Gold,GXT,Matte,Tin; Color: Silver; Number of Terminals: 8; Housing Material: Thermoplastic; Termination: Solder; Orientation: Right Angle; Packaging: Rail/Tube; Package Quantity: 41; Number of Positions: 8; Length: 13.1mm; Depth: 17mm; REACH SVHC: No SVHC; Lead Free: Lead Free; Flammability Rating: UL94 V-0; ComponentLink1URL: http://portal.fciconnect.com/Comergent/fci/drawing/72309.pdf; ComponentLink1Description: http://portal.fciconnect.com/Comergent/fci/drawing/72309.pdf; ComponentLink2URL: http://portal.fciconnect.com/Comergent//fci/drawing/72309.pdf; ComponentLink2Description: http://portal.fciconnect.com/Comergent//fci/drawing/72309.pdf; ComponentLink3URL: http://www.farnell.com/datasheets/1483119.pdf; ComponentLink3Description: http://www.farnell.com/datasheets/1483119.pdf; Supplier Part Number 1: 649-72309-8014BLF
footprint 72309-8014BLF
pins: A1 VCC, A2 D-, A3 D+, A4 GND, B1 VCC2, B2 D2-, B3 D2+, B4 GND2, SH SHIELD

## 505110-1592
designator J?, comment 15PIN .5MM BOT  Supplier Part Number 1: 538-505110-1592
CONN FPC BOTTOM 15POS .5MM R/A; Manufacturer: Molex; Manufacturer Part Number: 505110-1592; Actuator Material: Nylon,Glass,Polyamide; Number of Positions: 15; Voltage Rating: 50V; Current Rating: 500mA; Gender: Receptacle; Pitch: 0.02inch; Supplier 1: Mouser; Stock 1: 11750; Pricing 1: 1=0.67, 10=0.583, 50=0.583, 100=0.507, 1000=0.369, 10000=0.312 (USD); Mount: Surface Mount; Contact Material: Bronze; Contact Plating: Gold; Housing Material: Polymer; Min Operating Temperature: -40°C; Max Operating Temperature: 105°C; Packaging: Tape and Reel; Termination: Solder; Number of Rows: 1; REACH SVHC: Unknown; Flammability Rating: UL94 V-0
footprint 505110-1592
pins: 1, 2, 3, 4, 5, 6, 7, 8, 9, 10, 11, 12, 13, 14, 15, 16 SHD, 17 SHD

## 505278-2033
designator J?, comment 20 Pin .5MM BOT
0.5 FFC ZIF BTM CONT EMBT PKG 20; Manufacturer: Molex; Manufacturer Part Number: 505278-2033; Actuator Material: Nylon,Glass,Polyamide; Number of Positions: 20; Voltage Rating: 50V; Current Rating: 500mA; Pitch: 0.02inch; Supplier 1: Mouser; Stock 1: 17996; Pricing 1: 1=0.65, 10=0.561, 50=0.561, 100=0.488, 1000=0.355, 10000=0.3 (USD); Mount: Surface Mount; Contact Material: Bronze; Contact Plating: Tin; Housing Material: Polymer; Min Operating Temperature: -40°C; Max Operating Temperature: 85°C; Packaging: Tape and Reel; Termination: Solder; Flammability Rating: UL94 V-0; Supplier Part Number 1: 538-505278-2033
footprint 5052782033
pins: 1, 2, 3, 4, 5, 6, 7, 8, 9, 10, 11, 12, 13, 14, 15, 16, 17, 18, 19, 20, 21, 22

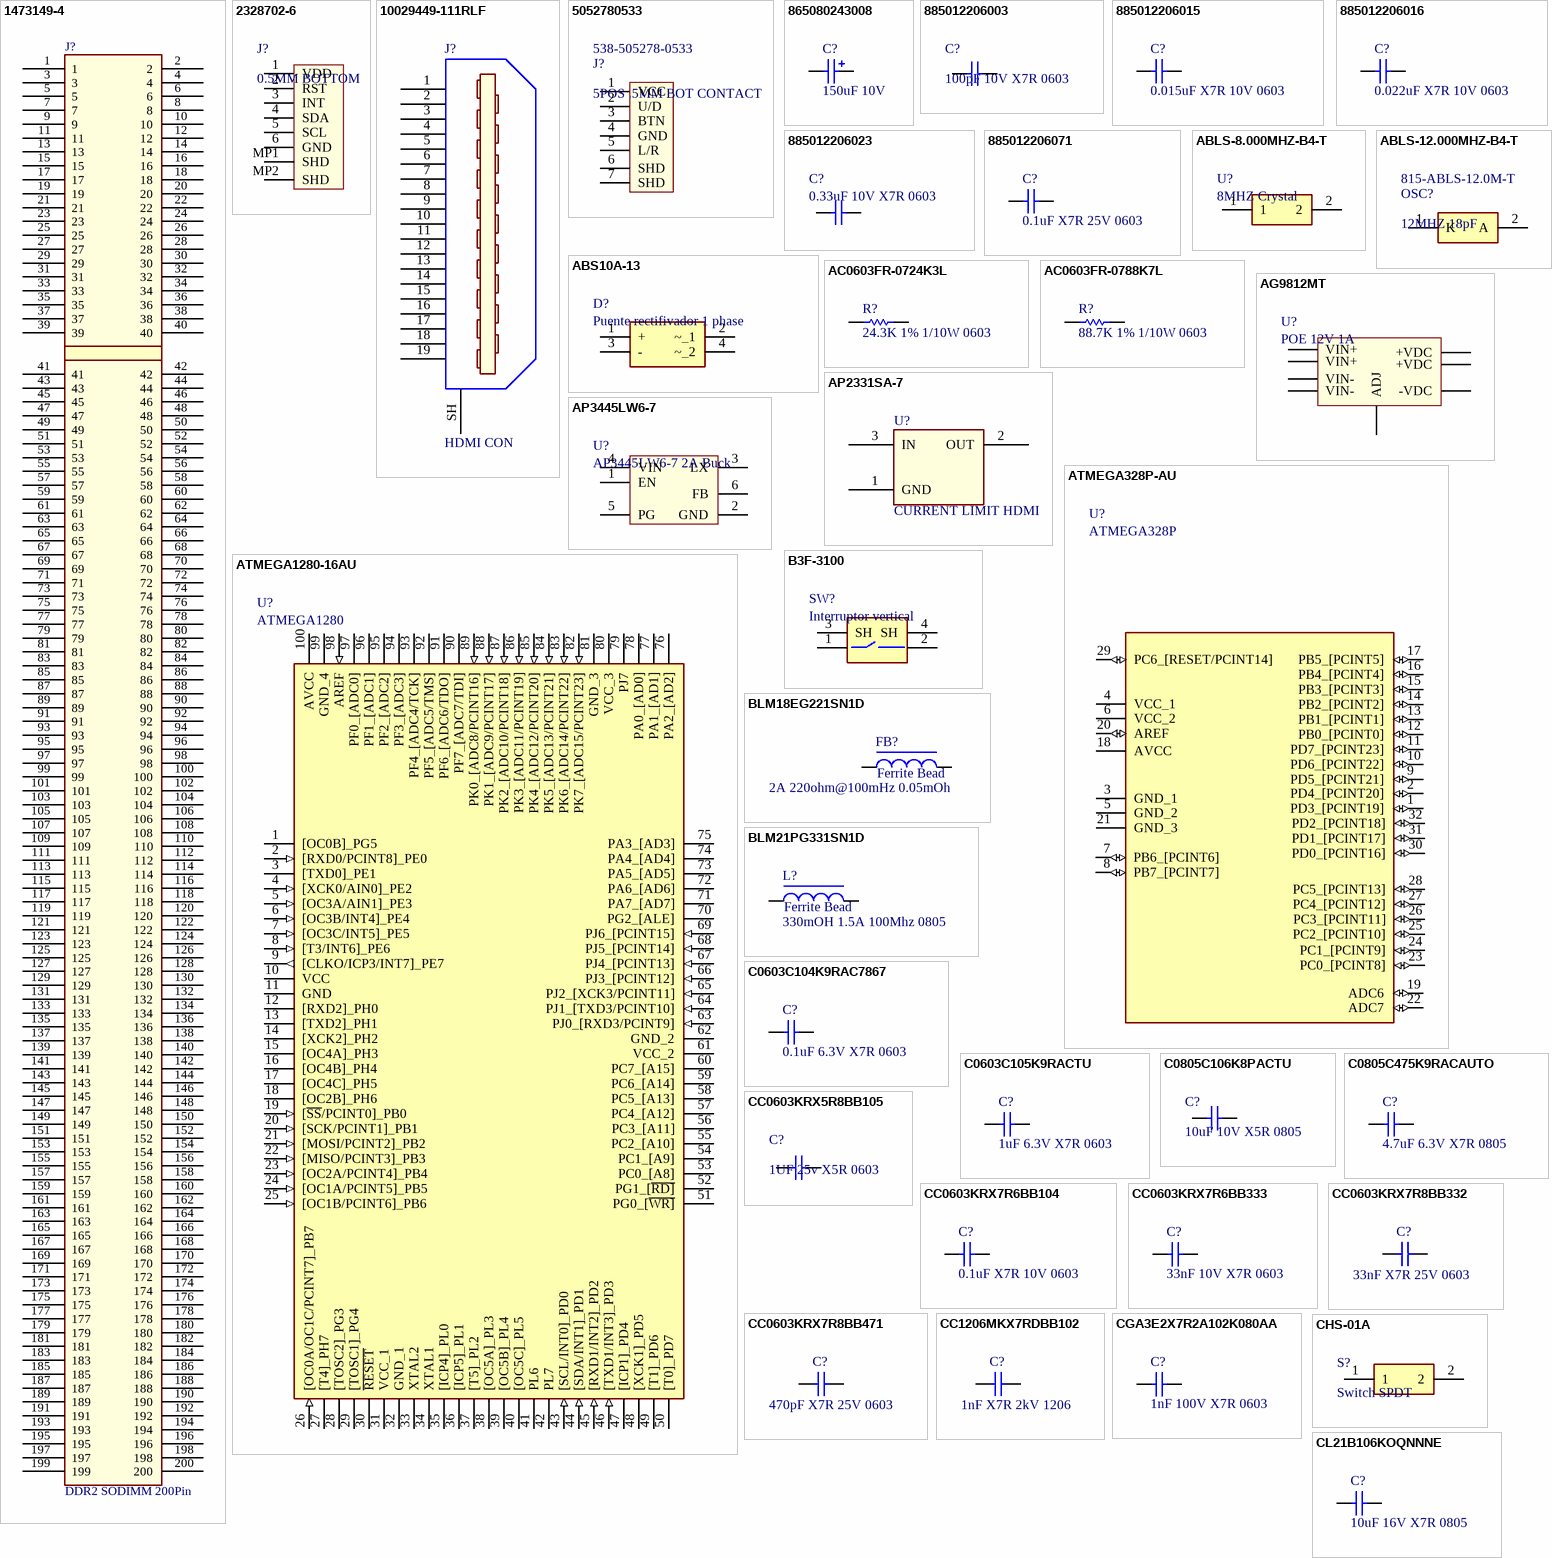
[diagram p1: symbols 1473149-4 to CL21B106KOQNNNE]

## 1473149-4
designator J?, comment DDR2 SODIMM 200Pin
CONN SKT SODIMM 200POS R/A SMD; Manufacturer: TE Connectivity AMP Connectors; Manufacturer Part Number: 1473149-4; Memory Type: DDR2 SDRAM; Supplier 1: Digi-Key; RoHS: RoHS Compliant; Category: Connectors, Interconnects; Stock 1: 19674; Pricing 1: 1=2.68, 10=2.571, 25=2.3568, 50=2.2496, 100=2.1425, 250=1.87464, 500=1.8211, 1000=1.55329, 2500=1.44616 (EUR); Packaging: Tray; Part Status: Active; Connector Style: SODIMM; Standards: -; Mounting Type: Surface Mount, Right Angle; Features: Board Guide, Latches; Mounting Feature: Normal, Standard - Top; Contact Finish: Gold; Contact Finish Thickness: Flash; ComponentLink1URL: http://www.te.com/commerce/DocumentDelivery/DDEController?Action=srchrtrv&DocNm=1473149&DocType=Customer+Drawing&DocLang=English; ComponentLink1Description: http://www.te.com/commerce/DocumentDelivery/DDEController?Action=srchrtrv&DocNm=1473149&DocType=Customer+Drawing&DocLang=English; Supplier Part Number 1: A114854-ND
footprint SODIM DDR2 200PIN 0,6mm
pins: 1, 2, 3, 4, 5, 6, 7, 8, 9, 10, 11, 12, 13, 14, 15, 16, 17, 18, 19, 20, 21, 22, 23, 24, 25, 26, 27, 28, 29, 30, 31, 32, 33, 34, 35, 36, 37, 38, 39, 40, 41, 42, 43, 44, 45, 46, 47, 48, 49, 50, 51, 52, 53, 54, 55, 56, 57, 58, 59, 60, 61, 62, 63, 64, 65, 66, 67, 68, 69, 70, 71, 72, 73, 74, 75, 76, 77, 78, 79, 80, 81, 82, 83, 84, 85, 86, 87, 88, 89, 90, 91, 92, 93, 94, 95, 96, 97, 98, 99, 100, 101, 102, 103, 104, 105, 106, 107, 108, 109, 110, 111, 112, 113, 114, 115, 116, 117, 118, 119, 120, 121, 122, 123, 124, 125, 126, 127, 128, 129, 130, 131, 132, 133, 134, 135, 136, 137, 138, 139, 140, 141, 142, 143, 144, 145, 146, 147, 148, 149, 150, 151, 152, 153, 154, 155, 156, 157, 158, 159, 160, 161, 162, 163, 164, 165, 166, 167, 168, 169, 170, 171, 172, 173, 174, 175, 176, 177, 178, 179, 180, 181, 182, 183, 184, 185, 186, 187, 188, 189, 190, 191, 192, 193, 194, 195, 196, 197, 198, 199, 200

## 2328702-6
designator J?, comment 0.5MM BOTTOM
0.5MM PITCH DUAL CONTACT BACK FL; Manufacturer: TE Connectivity; Manufacturer Part Number: 2328702-6; Supplier 1: Mouser; RoHS: No; Stock 1: 21975; Pricing 1: 1 = 0,20000, 10 = 0,15500, 50 = 0,15500, 100 = 0,12300, 1000 = 0,08700, 10000 = 0,07800 (USD); ComponentLink1URL: https://www.te.com/commerce/DocumentDelivery/DDEController?Action=srchrtrv&amp;DocNm=2328702&amp;DocType=Customer+Drawing&amp;DocLang=English&src-supplier=Digi-Key; ComponentLink1Description: https://www.te.com/commerce/DocumentDelivery/DDEController?Action=srchrtrv&amp;DocNm=2328702&amp;DocType=Customer+Drawing&amp;DocLang=English&src-supplier=Digi-Key; ComponentLink2URL: https://www.te.com/commerce/DocumentDelivery/DDEController?Action=srchrtrv&DocNm=2328702&DocType=Customer+Drawing&DocLang=English&src-supplier=Digi-Key; ComponentLink2Description: https://www.te.com/commerce/DocumentDelivery/DDEController?Action=srchrtrv&DocNm=2328702&DocType=Customer+Drawing&DocLang=English&src-supplier=Digi-Key; Supplier Part Number 1: 571-2328702-6
footprint 23287026
pins: 1 VDD, 2 RST, 3 INT, 4 SDA, 5 SCL, 6 GND, MP1 SHD, MP2 SHD

## 10029449-111RLF
designator J?, comment HDMI CON
HDMI  Receptacle Connector 19 Position Surface Mount, Right Angle, Horizontal; Manufacturer: Amphenol FCI; Manufacturer Part Number: 10029449-111RLF; Body Material: Stainless Steel; Voltage Rating: 40V; Number of Contacts: 19; Insulation Resistance: 100MR; Number of Ports: 1; Pitch: 0.5mm; Supplier 1: Mouser; Stock 1: 8899; Pricing 1: 1=0.72, 10=0.661, 50=0.525, 100=0.503, 1000=0.374, 10000=0.327 (USD); Mount: Horizontal,Surface Mount; Contact Material: Bronze,Copper Alloy; Contact Plating: Gold; Color: Black; Number of Terminals: 19; Housing Material: Thermoplastic; Min Operating Temperature: -55°C; Max Operating Temperature: 85°C; Termination: Solder; Orientation: Right Angle; Package Quantity: 400; Packaging: Tape and Reel; Gender: Receptacle; Connector Type: HDMI; Number of Positions: 19; Max Voltage Rating (AC): 40V; Features: Shielded; Length: 15.7mm; Depth: 9.5mm; Radiation Hardening: No; REACH SVHC: No SVHC; Lead Free: Lead Free; ComponentLink1URL: http://www.amphenol-icc.com/media/wysiwyg/files/drawing/10029449.pdf?src-supplier=Digi-Key; ComponentLink1Description: http://www.amphenol-icc.com/media/wysiwyg/files/drawing/10029449.pdf?src-supplier=Digi-Key; Supplier Part Number 1: 649-10029449-111RLF
footprint 10029449-111RLF HDMI
pins: 1 P1, 2 P2, 3 P3, 4 P4, 5 P5, 6 P6, 7 P7, 8 P8, 9 P9, 10 P10, 11 P11, 12 P12, 13 P13, 14 P14, 15 P15, 16 P16, 17 P17, 18 P18, 19 P19, SH

## 5052780533
designator J?, comment 5POS .5MM BOT CONTACT  Supplier Part Number 1: 538-505278-0533
0.5 FFC ZIF BTM CONT EMBT PKG 5C; Manufacturer: Molex; Manufacturer Part Number: 5052780533; Actuator Material: Nylon; Number of Positions: 5; Voltage Rating: 50V; Current Rating: 500mA; Pitch: 0.02inch; Supplier 1: Mouser; RoHS: Yes; Stock 1: 13723; Pricing 1: 1 = 0,41000, 10 = 0,34100, 50 = 0,34100, 100 = 0,29800, 1000 = 0,21300, 10000 = 0,17200 (USD); Mount: Surface Mount; Contact Material: Bronze; Contact Plating: Tin; Housing Material: Polymer; Min Operating Temperature: -40°C; Max Operating Temperature: 85°C; Packaging: Tape and Reel; Termination: Solder; Flammability Rating: UL94 V-0; ComponentLink1URL: http://www.molex.com/pdm_docs/sd/5052780533_sd.pdf?src-supplier=Digi-Key; ComponentLink1Description: http://www.molex.com/pdm_docs/sd/5052780533_sd.pdf?src-supplier=Digi-Key
footprint 505278-0533
pins: 1 VCC, 2 U/D, 3 BTN, 4 GND, 5 L/R, 6 SHD, 7 SHD

## 865080243008
designator C?, comment 150uF 10V
WCAP-ASLI Aluminum Electrolytic Capacitors, size Ф6.3x5.5mm, 10V DC, 150uF; Part Number: 865080243008; Rated Voltage: 10V DC; ComponentLink1Description: Manufacturer; ComponentLink1URL: http://www.we-online.de; ComponentLink2Description: Datasheet; ComponentLink2URL: http://katalog.we-online.de/pbs/datasheet/865080243008.pdf; Published Date: June 2017; Publisher: Wurth Elektronik; Size: Ф6.3x5.5mm; Life Cycle: 2000h; Operating Temperature: -55 °C up to +105 °C
footprint WCAP-ASLI_6.3x5.5
pins: 1 P, 2 N

## 885012206003
designator C?, comment 100pF 10V X7R 0603
CAP CER 100PF 10V X7R 0603; Manufacturer: Wurth Electronics; Manufacturer Part Number: 885012206003; Tolerance: 10%; Supplier 1: Mouser; RoHS: Yes; Stock 1: 20411; Pricing 1: 1 = 0,10000, 10 = 0,02200, 50 = 0,02200, 100 = 0,02000, 1000 = 0,01700, 10000 = 0,01100 (USD); Mount: Surface Mount; Case/Package: 0603; Case Code (Metric): 1608; Case Code (Imperial): 0603; Min Operating Temperature: -55°C; Max Operating Temperature: 125°C; Packaging: Tape and Reel; Capacitance: 100pF; Voltage Rating: 10V; Length: 0.063inch; Width: 0.031inch; Thickness: 0.034inch; ComponentLink1URL: http://www.farnell.com/datasheets/2546794.pdf?src-supplier=Farnell; ComponentLink1Description: http://www.farnell.com/datasheets/2546794.pdf?src-supplier=Farnell; ComponentLink2URL: https://katalog.we-online.de/pbs/datasheet/885012206003.pdf?src-supplier=Digi-Key; ComponentLink2Description: https://katalog.we-online.de/pbs/datasheet/885012206003.pdf?src-supplier=Digi-Key; Supplier Part Number 1: 710-885012206003
footprint C 0603/1608
pins: 1, 2

## 885012206015
designator C?, comment 0.015uF X7R 10V 0603
Wurth Elektronik 0603 WCAP-CSGP 15nF Ceramic Multilayer Capacitor, 10 V dc, +125°C, X7R Dielectric, ±10%; Manufacturer: Wurth Electronics; Manufacturer Part Number: 885012206015; Supplier 1: Mouser; Stock 1: 7701; Pricing 1: 1=0.1, 10=0.028, 50=0.028, 100=0.025, 1000=0.022, 10000=0.022 (USD); Mount: Surface Mount; Case/Package: 0603; Case Code (Metric): 1608; Case Code (Imperial): 0603; Min Operating Temperature: -55°C; Max Operating Temperature: 125°C; Packaging: Cut Tape; Capacitance: 15nF; Voltage Rating: 10V; Tolerance: 10%; Length: 0.063inch; Width: 0.031inch; Thickness: 0.034inch; Supplier Part Number 1: 710-885012206015
footprint C 0603/1608
pins: 1, 2

## 885012206016
designator C?, comment 0.022uF X7R 10V 0603
Wurth Elektronik 0603 WCAP-CSGP 22nF Ceramic Multilayer Capacitor, 10 V dc, +125°C, X7R Dielectric, ±10%; Manufacturer: Wurth Electronics; Manufacturer Part Number: 885012206016; Supplier 1: Mouser; Stock 1: 10477; Pricing 1: 1=0.1, 10=0.026, 50=0.026, 100=0.023, 1000=0.021, 10000=0.021 (USD); Mount: Surface Mount; Case/Package: 0603; Case Code (Metric): 1608; Case Code (Imperial): 0603; Min Operating Temperature: -55°C; Max Operating Temperature: 125°C; Packaging: Tape and Reel; Capacitance: 22nF; Voltage Rating: 10V; Tolerance: 10%; Length: 0.063inch; Width: 0.031inch; Thickness: 0.034inch; Supplier Part Number 1: 710-885012206016
footprint C 0603/1608
pins: 1, 2

## 885012206023
designator C?, comment 0.33uF 10V X7R 0603
Condensadores de cerámica multicapa (MLCC- SMD/SMT) WCAP-CSGP 0.33uF 0603 10% 10V MLCC; Manufacturer: Wurth Electronics; Manufacturer Part Number: 885012206023; Capacitance: 330nF; Supplier 1: Mouser; Stock 1: 2231; Pricing 1: 1=0.1, 10=0.079, 50=0.079, 100=0.071, 1000=0.063, 10000=0.058 (USD); Mount: Surface Mount; Case/Package: 0603; Case Code (Metric): 1608; Case Code (Imperial): 0603; Min Operating Temperature: -55°C; Max Operating Temperature: 125°C; Packaging: Cut Tape; Voltage Rating: 10V; Tolerance: 10%; Length: 0.063inch; Width: 0.031inch; Thickness: 0.037inch; Supplier Part Number 1: 710-885012206023
footprint C 0603/1608
pins: 1, 2

## 885012206071
designator C?, comment 0.1uF X7R 25V 0603
WURTH ELEKTRONIK         885012206071             SMD Multilayer Ceramic Capacitor, 0603 [1608 Metric], 0.1 F, 25 V,  10%, X7R, WCAP-CSGP Series; Manufacturer: Wurth Electronics; Capacitance: 100nF; Supplier 1: Mouser; Manufacturer Part Number: 885012206071; Stock 1: 202580; Pricing 1: 1=0.1, 10=0.046, 50=0.046, 100=0.041, 1000=0.036, 10000=0.036 (USD); Mount: Surface Mount; Case/Package: 0603; Case Code (Metric): 1608; Case Code (Imperial): 0603; Min Operating Temperature: -55°C; Max Operating Temperature: 125°C; Packaging: Cut Tape; Voltage Rating: 25V; Dielectric: X7R; Tolerance: 10%; Voltage Rating (DC): 25V; Length: 0.063inch; Width: 0.031inch; Thickness: 0.037inch; REACH SVHC: Unknown; Supplier Part Number 1: 710-885012206071
footprint C 0603/1608
pins: 1, 2

## ABLS-8.000MHZ-B4-T
designator U?, comment 8MHZ Crystal
Cristales 8.000MHz 30ppm -20C +70C; Manufacturer: Abracon; Manufacturer Part Number: ABLS-8.000MHZ-B4-T; Load Capacitance: 18pF; ESR (Equivalent Series Resistance): 80R; Frequency Stability: 50ppm; Supplier 1: Mouser; Stock 1: 15999; Pricing 1: 1=0.26, 10=0.225, 50=0.202, 100=0.18, 1000=0.137, 10000=0.124 (USD); Mount: Surface Mount; Case/Package: SMD/SMT; Min Operating Temperature: -20°C; Max Operating Temperature: 70°C; Frequency Tolerance: 30ppm; Frequency: 8MHz; Packaging: Tape and Reel; Package Quantity: 1000; Tolerance: 30ppm; Termination: SMD/SMT; Series Resistance: 80R; Length: 11.4mm; Height: 0.165inch; Width: 0.185inch; Depth: 4.7mm; Radiation Hardening: No; REACH SVHC: Yes; Lead Free: Lead Free; ComponentLink1URL: https://abracon.com/Support/PackageDrawing/Resonators/ABLS-2D.pdf?src-supplier=Digi-Key; ComponentLink1Description: https://abracon.com/Support/PackageDrawing/Resonators/ABLS-2D.pdf?src-supplier=Digi-Key; ComponentLink2URL: http://www.abracon.com/Support/PackageDrawing/Resonators/ABLS-2D.pdf?src-supplier=Avnet; ComponentLink2Description: http://www.abracon.com/Support/PackageDrawing/Resonators/ABLS-2D.pdf?src-supplier=Avnet; ComponentLink3URL: http://www.abracon.com/Support/PackageDrawing/Resonators/ABLS-2D.pdf?src-supplier=Mouser; ComponentLink3Description: http://www.abracon.com/Support/PackageDrawing/Resonators/ABLS-2D.pdf?src-supplier=Mouser; Supplier Part Number 1: 815-ABLS-8.0M-T
footprint ABLS
pins: 1, 2

## ABLS-12.000MHZ-B4-T
designator OSC?, comment 12MHZ 18pF  Supplier Part Number 1: 815-ABLS-12.0M-T
CRYSTAL 12.0000MHZ 18PF SMD; Manufacturer: Abracon; Manufacturer Part Number: ABLS-12.000MHZ-B4-T; Frequency Tolerance: 30ppm; ESR (Equivalent Series Resistance): 50R; Frequency Stability: 50ppm; Supplier 1: Mouser; RoHS: Yes; Stock 1: 9442; Pricing 1: 1 = 0,27000, 10 = 0,22500, 50 = 0,20400, 100 = 0,20400, 1000 = 0,16300, 10000 = 0,14500 (USD); Mount: Surface Mount; Case/Package: SMD/SMT; Min Operating Temperature: -20°C; Max Operating Temperature: 70°C; Package Quantity: 1000; Frequency: 12MHz; Load Capacitance: 18pF; Packaging: Tape and Reel; Tolerance: 30ppm; Termination: SMD/SMT; Series Resistance: 50R; Length: 11.4mm; Height: 0.165inch; Width: 0.185inch; Depth: 4.7mm; Radiation Hardening: No; REACH SVHC: Yes; Lead Free: Lead Free; ComponentLink1URL: https://datasheet.ciiva.com/15116/getdatasheetpartid-719931-15116807.pdf?src-supplier=Verical; ComponentLink1Description: https://datasheet.ciiva.com/15116/getdatasheetpartid-719931-15116807.pdf?src-supplier=Verical; ComponentLink2URL: https://datasheet.ciiva.com/854/abls-854132.pdf?src-supplier=Digi-Key; ComponentLink2Description: https://datasheet.ciiva.com/854/abls-854132.pdf?src-supplier=Digi-Key; ComponentLink3URL: https://datasheet.ciiva.com/854/abls-854133.pdf?src-supplier=Digi-Key; ComponentLink3Description: https://datasheet.ciiva.com/854/abls-854133.pdf?src-supplier=Digi-Key; ComponentLink4URL: https://datasheet.ciiva.com/854/abls-854134.pdf?src-supplier=Digi-Key; ComponentLink4Description: https://datasheet.ciiva.com/854/abls-854134.pdf?src-supplier=Digi-Key; ComponentLink5URL: https://datasheet.ciiva.com/16339/abls-16339801.pdf?src-supplier=Future+Electronics; ComponentLink5Description: https://datasheet.ciiva.com/16339/abls-16339801.pdf?src-supplier=Future+Electronics; ComponentLink6URL: https://datasheet.ciiva.com/3174/abls-3174254.pdf?src-supplier=Avnet; ComponentLink6Description: https://datasheet.ciiva.com/3174/abls-3174254.pdf?src-supplier=Avnet; ComponentLink7URL: https://datasheet.ciiva.com/4944/abls-44621-4944814.pdf?src-supplier=Mouser; ComponentLink7Description: https://datasheet.ciiva.com/4944/abls-44621-4944814.pdf?src-supplier=Mouser
footprint HC/49US-(AT49)_1
pins: 1 K, 2 A

## ABS10A-13
designator D?, comment Puente rectifivador 1 phase
BRIDGE RECT 1PHASE 1KV 1A 4SOPA; Manufacturer: Diodes; Manufacturer Part Number: ABS10A-13; Supplier 1: Mouser; RoHS: No; Stock 1: 57793; Pricing 1: 1 = 0,39000, 10 = 0,27000, 50 = 0,27000, 100 = 0,12400, 1000 = 0,09500, 10000 = 0,07400 (USD); ComponentLink1URL: https://www.diodes.com/assets/Datasheets/ABS10A.pdf?src-supplier=Digi-Key; ComponentLink1Description: https://www.diodes.com/assets/Datasheets/ABS10A.pdf?src-supplier=Digi-Key; Supplier Part Number 1: 621-ABS10A-13
footprint ABS10A13
pins: 1 +, 2 ~_1, 3 -, 4 ~_2

## AC0603FR-0724K3L
designator R?, comment 24.3K 1% 1/10W 0603
RES SMD 24.3K OHM 1% 1/10W 0603; Manufacturer: Yageo; Manufacturer Part Number: AC0603FR-0724K3L; Resistance: 24.3kR; Max Power Dissipation: 100mW; Temperature Coefficient: 100ppm/°C; Supplier 1: Mouser; Stock 1: 43450; Pricing 1: 1=0.1, 10=0.022, 50=0.022, 100=0.008, 1000=0.006, 10000=0.004 (USD); Case/Package: 0603; Min Operating Temperature: -55°C; Max Operating Temperature: 155°C; Packaging: Tape and Reel; Composition: Thick Film; Number of Terminations: 2; Tolerance: 1%; Features: Automotive AEC-Q200,Moisture Resistant; Length: 0.063inch; Height: 0.022inch; Width: 0.031inch; Supplier Part Number 1: 603-AC0603FR-0724K3L
footprint R 0603/1608
pins: 1, 2

## AC0603FR-0788K7L
designator R?, comment 88.7K 1% 1/10W 0603
Thick Film Resistors - SMD 1/10W 88.7K ohm 1% AEC-Q200; Manufacturer: Yageo; Manufacturer Part Number: AC0603FR-0788K7L; Power Rating: 100mW; Resistance: 88.7kR; Voltage Rating: 50V; Temperature Coefficient: 100ppm/°C; Supplier 1: Mouser; Stock 1: 53929; Pricing 1: 1=0.1, 10=0.016, 50=0.016, 100=0.006, 1000=0.005, 10000=0.004 (USD); Case/Package: 0603; Weight: 7.1E-05oz; Case Code (Imperial): 0603; Case Code (Metric): 1608; Min Operating Temperature: -55°C; Max Operating Temperature: 155°C; Packaging: Tape and Reel; Tolerance: 1%; Composition: Thick Film; Number of Terminations: 2; Termination: SMD/SMT; Max Power Dissipation: 100mW; Features: Automotive AEC-Q200,Moisture Resistant; Length: 0.063inch; Height: 0.022inch; Width: 0.031inch; Lead Free: Lead Free; Supplier Part Number 1: 603-AC0603FR-0788K7L
footprint R 0603/1608
pins: 1, 2

## AG9812MT
designator U?, comment POE 12V 1A
Modulo poe que se compra externamente
footprint POE_MOD_AG9812MT
pins: 1 +VDC, 2 +VDC, 3 -VDC, 4 ADJ, 5 VIN+, 6 VIN+, 7 VIN-, 8 VIN-

## AP2331SA-7
designator U?, comment CURRENT LIMIT HDMI
IC PWR SW USB SWITCH SOT23; Manufacturer: Diodes; Manufacturer Part Number: AP2331SA-7; Number of Outputs: 1; On-State Resistance: 350mR; Turn-On Delay Time: 700us; Output Current: 200mA; Max Input Voltage: 5.2V; Min Input Voltage: 2.7V; Supplier 1: Mouser; Stock 1: 6712; Pricing 1: 1=0.51, 10=0.388, 50=0.388, 100=0.21, 1000=0.158, 10000=0.127 (USD); Mount: Surface Mount; Case/Package: SOT-23; Number of Pins: 3; Weight: 0.00031oz; Min Operating Temperature: -40°C; Max Operating Temperature: 85°C; Packaging: Tape and Reel; Package Quantity: 3000; Max Supply Voltage: 5.2V; Min Supply Voltage: 2.7V; Length: 3mm; Height: 1.1mm; Width: 1.4mm; Radiation Hardening: No; Lead Free: Lead Free; REACH SVHC: No SVHC; ComponentLink1URL: https://www.verical.com/server-webapp/html/getDatasheet?partID=670771&src-supplier=Verical; ComponentLink1Description: https://www.verical.com/server-webapp/html/getDatasheet?partID=670771&src-supplier=Verical; ComponentLink2URL: http://www.mouser.com/ds/2/115/AP2331-371188.pdf?src-supplier=Mouser; ComponentLink2Description: http://www.mouser.com/ds/2/115/AP2331-371188.pdf?src-supplier=Mouser; ComponentLink3URL: http://www.diodes.com/datasheets/AP2331.pdf?src-supplier=Avnet; ComponentLink3Description: http://www.diodes.com/datasheets/AP2331.pdf?src-supplier=Avnet; ComponentLink4URL: https://www.diodes.com/assets/Datasheets/AP2331.pdf?src-supplier=Digi-Key; ComponentLink4Description: https://www.diodes.com/assets/Datasheets/AP2331.pdf?src-supplier=Digi-Key; Supplier Part Number 1: 621-AP2331SA-7
footprint SOT-23-3 (SOT23, 3-Leads, Body 2.92x1.3mm, Pitch 0.95mm)
pins: 1 GND (power), 2 OUT (power), 3 IN (power)

## AP3445LW6-7
designator U?, comment AP3445LW6-7 2A Buck
Reguladores de tensión de conmutación DCDC Conv LV Buck; Manufacturer 1: Diodes; Supplier 1: Mouser; Manufacturer Part Number 1: AP3445LW6-7; Stock 1: 2680; Pricing 1: 1=0,46000, 10=0,38400, 100=0,20300, 1000=0,15600, 3000=0,14000, 9000=0,13300, 24000=0,12500, 45000=0,11600, 99000=0,11200 (USD); RoHS: No; Supplier Part Number 1: 621-AP3445LW6-7
footprint SOT-26-6 (SOT23, 3-Leads, Body 2.92x1.3mm, Pitch 0.95mm)
pins: 1 EN, 2 GND, 3 LX, 4 VIN, 5 PG, 6 FB